# Altium footprint library Kanaloa_v2.0.0_Motor.PcbLib: 76 footprints (part 2 of 5)
Each footprint in its own frame and in the unit in brackets; x right, y up, seen from the top. Pads: shape width x height; smd on the part's side, far side on the other; paste and mask are expansions set on the pad; w line width, h text height; cw(c..) or ccw(c..) is an arc to the next point about the centre after c.
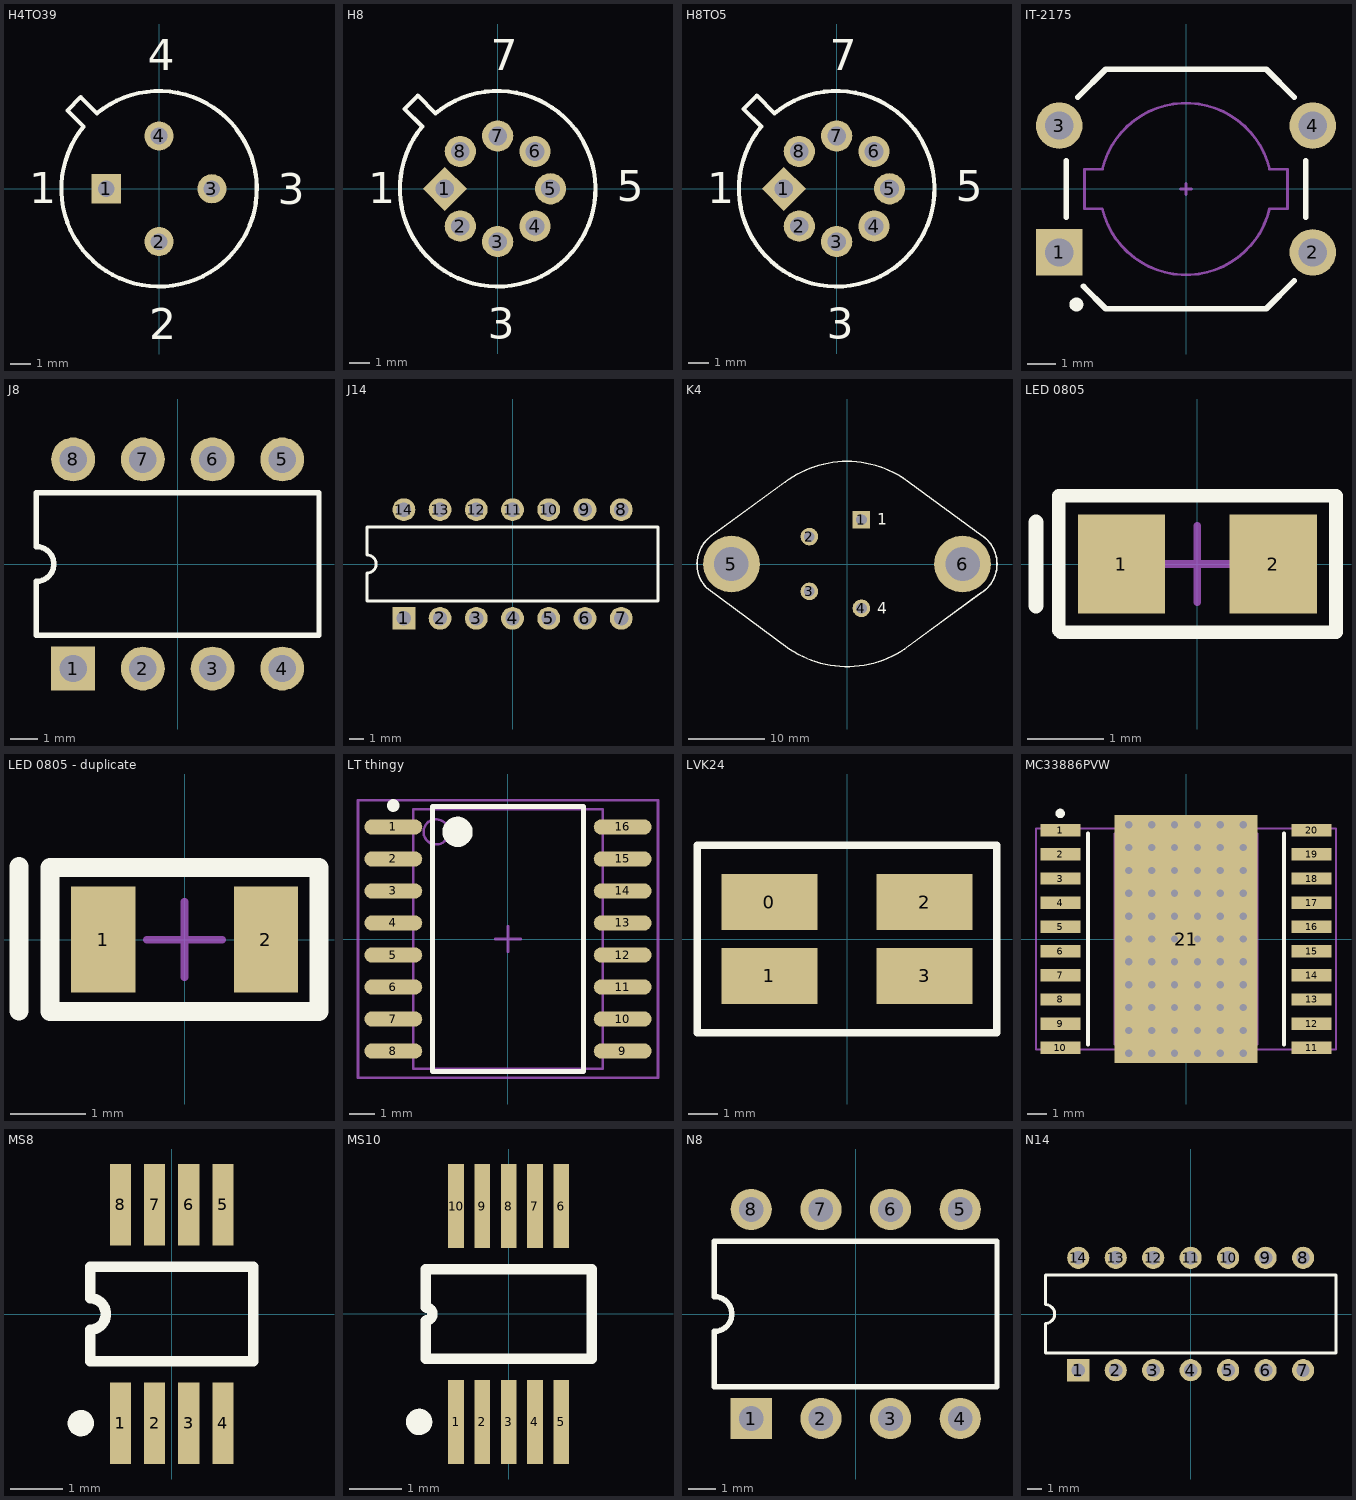
[diagram p1: the footprints below, top view; thin cyan lines are the x and y axes]

## H4TO39 [mm] "Can; 4 Leads; Pin Circle Dia. 5.08 mm; Lead Dia. 0.48 mm (max)"
height 4.96
pads (4):
  rect 1.4x1.4 hole 0.8: 1(-2.54,0)
  round 1.4 hole 0.8: 2(0,-2.54) 3(2.54,0) 4(0,2.54)
Top Overlay:
  lines w0.2: -4.404,3.768 -3.768,4.404 -2.99,3.626 cw(c0,0) -3.626,2.99 -4.404,3.768
  text "1" at -6.238,-0.697 h1.5
  text "2" at -0.469,-7.221 h1.5
  text "3" at 5.694,-0.751 h1.5
  text "4" at -0.541,5.701 h1.5

## H8 [mm] "Can; 8 Leads; Pin Circle Dia. 5.08 mm; Lead Dia. 0.53 mm (max)"
height 4.7
pads (8):
  rect 1.5x1.5 hole 0.9 rot 45: 1(-2.54,0)
  round 1.5 hole 0.9: 2(-1.796,-1.796) 3(0,-2.54) 4(1.796,-1.796) 5(2.54,0) 6(1.796,1.796) 7(0,2.54) 8(-1.796,1.796)
Top Overlay:
  lines w0.2: -4.475,3.838 -3.838,4.475 -2.99,3.626 cw(c0,0) -3.626,2.99 -4.475,3.838
  text "1" at -6.22,-0.696 h1.5
  text "3" at -0.469,-7.22 h1.5
  text "5" at 5.712,-0.589 h1.5
  text "7" at -0.332,5.7 h1.5

## H8TO5 [mm] "Can; 8 Leads; Pin Circle Dia. 5.08 mm; Lead Dia. 0.53 mm (max)"
height 4.7
pads (8):
  rect 1.5x1.5 hole 0.9 rot 45: 1(-2.54,0)
  round 1.5 hole 0.9: 2(-1.796,-1.796) 3(0,-2.54) 4(1.796,-1.796) 5(2.54,0) 6(1.796,1.796) 7(0,2.54) 8(-1.796,1.796)
Top Overlay:
  lines w0.2: -4.475,3.838 -3.626,2.99 ccw(c0,0) -2.99,3.626 -3.838,4.475 -4.475,3.838
  text "7" at -0.332,5.7 h1.5
  text "5" at 5.712,-0.589 h1.5
  text "3" at -0.469,-7.22 h1.5
  text "1" at -6.22,-0.696 h1.5

## IT-2175 [mm] "Switch, Push Button, Thru-Hole; 4 Leads; Body 8.5 x 8.5 mm (LxW typ); Row Spacing 9.0 mm; Pitch 4.5 mm"
height 7.1
pads (4):
  rect 1.65x1.65 hole 1: 1(-4.5,-2.25)
  round 1.65 hole 1: 2(4.5,-2.25) 3(-4.5,2.25) 4(4.5,2.25)
Top Overlay:
  circle w0.25: c-3.891,-4.1 r0.125
  lines w0.2: -4.25,-1 -4.25,1 ; -3.837,3.263 -2.85,4.25 2.85,4.25 3.837,3.263 ; -3.638,-3.458 -2.85,-4.25 2.85,-4.25 3.837,-3.263 ; 4.25,-1 4.25,1
Mechanical 1:
  lines w0.1: -2.97,0.7 -3.6,0.7 -3.6,-0.7 -2.97,-0.7 ccw(c-0.001,0) 2.967,-0.7 ; -2.969,0.7 cw(c0,0) 2.969,0.7 ; -0.2,0 0.2,0 ; 0,-0.2 0,0.2 ; 2.97,-0.7 3.6,-0.7 3.6,0.7 2.97,0.7

## J8 [mm] "DIP, Ceramic; 8 Leads; Row Spacing 7.62 mm; Pitch 2.54 mm"
height 5.08
pads (8):
  rect 1.6x1.6 hole 1: 1(-3.81,-3.81)
  round 1.6 hole 1: 2(-1.27,-3.81) 3(1.27,-3.81) 4(3.81,-3.81) 5(3.81,3.81) 6(1.27,3.81) 7(-1.27,3.81) 8(-3.81,3.81)
Top Overlay:
  lines w0.2: -5.15,-2.6 5.15,-2.6 5.15,2.6 -5.15,2.6 -5.15,0.635 cw(c-5.15,0) -5.15,-0.635 -5.15,-2.6

## J14 [mm] "DIP, Ceramic; 14 Leads; Row Spacing 7.62 mm; Pitch 2.54 mm"
height 5.08
pads (14):
  rect 1.6x1.6 hole 1: 1(-7.62,-3.81)
  round 1.6 hole 1: 2(-5.08,-3.81) 3(-2.54,-3.81) 4(0,-3.81) 5(2.54,-3.81) 6(5.08,-3.81) 7(7.62,-3.81) 8(7.62,3.81) 9(5.08,3.81) 10(2.54,3.81) 11(0,3.81) 12(-2.54,3.81) 13(-5.08,3.81) 14(-7.62,3.81)
Top Overlay:
  lines w0.2: -10.2,-2.6 10.2,-2.6 10.2,2.6 -10.2,2.6 -10.2,0.635 cw(c-10.2,0) -10.2,-0.635 -10.2,-2.6

## K4 [mm] "Oval Flange Mount; 4 Leads; Pin Circle Dia. 11.94 mm; Lead Dia. 1.09 mm (max)"
height 8.89
pads (6):
  rect 2.3x2.3 hole 1.4: 1(1.88,5.779)
  round 2.3 hole 1.4: 2(-4.915,3.571) 3(-4.915,-3.571) 4(1.88,-5.779)
  round 7.4 hole 4.5: 5(-15.075,0) 6(15.075,0)
Top Overlay:
  lines w0.2: 17.324,-3.9 7.511,-11.097 cw(c0,0) -7.481,-11.117 -18.322,-3.115 cw(c-15.075,0) -17.858,3.536 -8.078,10.691 cw(c0,0) 8.105,10.671 17.631,3.704 cw(c15.075,0) 17.325,-3.897
  text "4" at 3.93,-6.51 h1.5
  text "1" at 3.93,5.1 h1.5

## LED 0805 [mm]
height 0.8
pads (2):
  rect 1.15x1.3 smd: 1(-1,0) 2(1,0)
Top Overlay:
  lines w0.178: -1.825,-0.875 -1.825,0.9 1.825,0.9 1.825,-0.9 -1.8,-0.9 -1.825,-0.875
  lines w0.2: -2.125,-0.55 -2.125,0.55
Mechanical 15:
  lines w0.1: -0.5,0 0.5,0 ; 0,-0.5 0,0.5 ; -1.825,-0.9 -1.825,0.9 1.825,0.9 1.825,-0.9 -1.825,-0.9
3D body: height 0.8, standoff 0, extent -0.7,-0.575 0.675,0.575
3D body: height 0.3, standoff 0, extent -1,-0.625 1,0.625

## LED 0805 - duplicate [mm]
pads (2):
  rect 0.85x1.4 smd: 1(-1.075,0) 2(1.075,0)
Top Overlay:
  lines w0.254: -2.184,-0.94 -2.184,0.965 ; -1.775,-0.95 -1.775,0.95 1.775,0.95 1.775,-0.95 -1.775,-0.95
Mechanical 15:
  lines w0.1: -0.5,0 0.5,0 ; 0,-0.5 0,0.5 ; -1.775,-0.95 -1.775,0.95 1.775,0.95 1.775,-0.95 -1.775,-0.95
3D body: height 0.85, standoff 0, extent 0.813,-0.65 1.188,0.65
3D body: height 0.85, standoff 0, extent -1.1,-0.635 1.1,0.635
3D body: height 0.85, standoff 0, extent -1.188,-0.65 -0.813,0.65
3D body: height 0.87, standoff 0, extent -0.508,-0.254 0.508,0.254

## LT thingy [mm] "16-Pin Plastic Small Outline Integrated Circuit 1.27 mm Pitch, IPC Medium Density"
height 2.65
pads (16):
  oval 2.3x0.6 smd: 1(-4.55,4.445) 2(-4.55,3.175) 3(-4.55,1.905) 4(-4.55,0.635) 5(-4.55,-0.635) 6(-4.55,-1.905) 7(-4.55,-3.175) 8(-4.55,-4.445) 9(4.55,-4.445) 10(4.55,-3.175) 11(4.55,-1.905) 12(4.55,-0.635) 13(4.55,0.635) 14(4.55,1.905) 15(4.55,3.175) 16(4.55,4.445)
Top Overlay:
  circle w0.6: c-2,4.25 r0.3
  circle w0.25: c-4.55,5.295 r0.125
  lines w0.2: -3,-5.25 3,-5.25 3,5.25 -3,5.25 -3,-5.25
Mechanical 13:
  circle w0.1: c-2.85,4.25 r0.5
  lines w0.1: -3.75,-5.15 3.75,-5.15 3.75,5.15 -3.75,5.15 -3.75,-5.15
Mechanical 15:
  lines w0.1: -0.5,0 0.5,0 ; 0,-0.5 0,0.5 ; -5.95,-5.5 5.95,-5.5 5.95,5.5 -5.95,5.5 -5.95,-5.5
3D body: height 3.5, standoff 0, extent -5.125,-5.1 5.175,5.1

## LVK24 [mm] "Current Sense Resistor Ohmite"
pads (4):
  rect 3.25x1.9 smd: 0(-2.625,1.25) 1(-2.625,-1.25) 2(2.625,1.25) 3(2.625,-1.25)
Top Overlay:
  lines w0.254: -5.08,-3.175 -5.08,3.175 5.08,3.175 5.08,-3.175 -5.08,-3.175
3D body: height 0.6, standoff 0, extent -3.174,-1.676 3.226,1.524

## MC33886PVW [mm] "Monolithic H-Bridge (Freescale)"
height 3.4
pads (21):
  rect 2.1x0.65 smd: 1(-6.6,5.715) 2(-6.6,4.445) 3(-6.6,3.175) 4(-6.6,1.905) 5(-6.6,0.635) 6(-6.6,-0.635) 7(-6.6,-1.905) 8(-6.6,-3.175) 9(-6.6,-4.445) 10(-6.6,-5.715) 11(6.6,-5.715) 12(6.6,-4.445) 13(6.6,-3.175) 14(6.6,-1.905) 15(6.6,-0.635) 16(6.6,0.635) 17(6.6,1.905) 18(6.6,3.175) 19(6.6,4.445) 20(6.6,5.715)
  rect 7.5x13 smd: 21(0,0)
via 3,-6 diameter 0.762 hole 0.381
via 1.8,-6 diameter 0.762 hole 0.381
via 0.6,-6 diameter 0.762 hole 0.381
via -0.6,-6 diameter 0.762 hole 0.381
via -1.8,-6 diameter 0.762 hole 0.381
via -3,-6 diameter 0.762 hole 0.381
via 3,-4.8 diameter 0.762 hole 0.381
via 1.8,-4.8 diameter 0.762 hole 0.381
via 0.6,-4.8 diameter 0.762 hole 0.381
via -0.6,-4.8 diameter 0.762 hole 0.381
via -1.8,-4.8 diameter 0.762 hole 0.381
via -3,-4.8 diameter 0.762 hole 0.381
via 3,-3.6 diameter 0.762 hole 0.381
via 1.8,-3.6 diameter 0.762 hole 0.381
via 0.6,-3.6 diameter 0.762 hole 0.381
via -0.6,-3.6 diameter 0.762 hole 0.381
via -1.8,-3.6 diameter 0.762 hole 0.381
via -3,-3.6 diameter 0.762 hole 0.381
via 3,-2.4 diameter 0.762 hole 0.381
via 1.8,-2.4 diameter 0.762 hole 0.381
via 0.6,-2.4 diameter 0.762 hole 0.381
via -0.6,-2.4 diameter 0.762 hole 0.381
via -1.8,-2.4 diameter 0.762 hole 0.381
via -3,-2.4 diameter 0.762 hole 0.381
via 3,-1.2 diameter 0.762 hole 0.381
via 1.8,-1.2 diameter 0.762 hole 0.381
via 0.6,-1.2 diameter 0.762 hole 0.381
via -0.6,-1.2 diameter 0.762 hole 0.381
via -1.8,-1.2 diameter 0.762 hole 0.381
via -3,-1.2 diameter 0.762 hole 0.381
via 3,0 diameter 0.762 hole 0.381
via 1.8,0 diameter 0.762 hole 0.381
via 0.6,0 diameter 0.762 hole 0.381
via -0.6,0 diameter 0.762 hole 0.381
via -1.8,0 diameter 0.762 hole 0.381
via -3,0 diameter 0.762 hole 0.381
via 3,1.2 diameter 0.762 hole 0.381
via 1.8,1.2 diameter 0.762 hole 0.381
via 0.6,1.2 diameter 0.762 hole 0.381
via -0.6,1.2 diameter 0.762 hole 0.381
via -1.8,1.2 diameter 0.762 hole 0.381
via -3,1.2 diameter 0.762 hole 0.381
via 3,2.4 diameter 0.762 hole 0.381
via 1.8,2.4 diameter 0.762 hole 0.381
via 0.6,2.4 diameter 0.762 hole 0.381
via -0.6,2.4 diameter 0.762 hole 0.381
via -1.8,2.4 diameter 0.762 hole 0.381
via -3,2.4 diameter 0.762 hole 0.381
via 3,3.6 diameter 0.762 hole 0.381
via 1.8,3.6 diameter 0.762 hole 0.381
via 0.6,3.6 diameter 0.762 hole 0.381
via -0.6,3.6 diameter 0.762 hole 0.381
via -1.8,3.6 diameter 0.762 hole 0.381
via -3,3.6 diameter 0.762 hole 0.381
via 3,4.8 diameter 0.762 hole 0.381
via 1.8,4.8 diameter 0.762 hole 0.381
via 0.6,4.8 diameter 0.762 hole 0.381
via -0.6,4.8 diameter 0.762 hole 0.381
via -1.8,4.8 diameter 0.762 hole 0.381
via -3,4.8 diameter 0.762 hole 0.381
via 3,6 diameter 0.762 hole 0.381
via 1.8,6 diameter 0.762 hole 0.381
via 0.6,6 diameter 0.762 hole 0.381
via -0.6,6 diameter 0.762 hole 0.381
via -1.8,6 diameter 0.762 hole 0.381
via -3,6 diameter 0.762 hole 0.381
Top Overlay:
  circle w0.25: c-6.6,6.59 r0.125
  lines w0.2: -5.15,-5.55 -5.15,5.55 ; 5.15,-5.55 5.15,5.55
Mechanical 13:
  circle w0.1: c-2.8,4.6 r0.5
  lines w0.1: -3.75,-5.55 3.75,-5.55 3.75,5.55 -3.75,5.55 -3.75,-5.55
Mechanical 15:
  lines w0.1: -0.5,0 0.5,0 ; 0,-0.5 0,0.5 ; -7.875,-5.8 7.875,-5.8 7.875,5.8 -7.875,5.8 -7.875,-5.8
3D body: height 3.17, standoff -0.03, extent -7.125,-8 7.125,8

## MS8 [mm] "Shrink Small Outline; 8 Leads; Body Width 3 mm; Pitch 0.65 mm"
height 1.17
pads (8):
  rect 0.4x1.55 smd: 1(-0.975,-2.075) 2(-0.325,-2.075) 3(0.325,-2.075) 4(0.975,-2.075) 5(0.975,2.075) 6(0.325,2.075) 7(-0.325,2.075) 8(-0.975,2.075)
Top Overlay:
  circle w0.25: c-1.725,-2.075 r0.125
  lines w0.2: -1.55,-0.9 -1.55,-0.3 ccw(c-1.55,0) -1.55,0.3 -1.55,0.9 1.55,0.9 1.55,-0.9 -1.55,-0.9

## MS10 [mm] "Shrink Small Outline; 10 Leads; Body Width 3 mm; Pitch 0.5 mm"
height 1.1
pads (10):
  rect 0.3x1.6 smd: 1(-1,-2.05) 2(-0.5,-2.05) 3(0,-2.05) 4(0.5,-2.05) 5(1,-2.05) 6(1,2.05) 7(0.5,2.05) 8(0,2.05) 9(-0.5,2.05) 10(-1,2.05)
Top Overlay:
  circle w0.25: c-1.7,-2.05 r0.125
  lines w0.2: -1.575,-0.85 -1.575,-0.125 ccw(c-1.575,0) -1.575,0.125 -1.575,0.85 1.575,0.85 1.575,-0.85 -1.575,-0.85

## N8 [mm] "DIP, Plastic; 8 Leads; Row Spacing 7.62 mm; Pitch 2.54 mm"
height 4.45
pads (8):
  rect 1.5x1.5 hole 0.9: 1(-3.81,-3.81)
  round 1.5 hole 0.9: 2(-1.27,-3.81) 3(1.27,-3.81) 4(3.81,-3.81) 5(3.81,3.81) 6(1.27,3.81) 7(-1.27,3.81) 8(-3.81,3.81)
Top Overlay:
  lines w0.2: -5.15,-2.65 5.15,-2.65 5.15,2.65 -5.15,2.65 -5.15,0.635 cw(c-5.15,0) -5.15,-0.635 -5.15,-2.65

## N14 [mm] "DIP, Plastic; 14 Leads; Row Spacing 7.62 mm; Pitch 2.54 mm"
height 4.45
pads (14):
  rect 1.5x1.5 hole 0.9: 1(-7.62,-3.81)
  round 1.5 hole 0.9: 2(-5.08,-3.81) 3(-2.54,-3.81) 4(0,-3.81) 5(2.54,-3.81) 6(5.08,-3.81) 7(7.62,-3.81) 8(7.62,3.81) 9(5.08,3.81) 10(2.54,3.81) 11(0,3.81) 12(-2.54,3.81) 13(-5.08,3.81) 14(-7.62,3.81)
Top Overlay:
  lines w0.2: -9.85,-2.65 9.85,-2.65 9.85,2.65 -9.85,2.65 -9.85,0.635 cw(c-9.85,0) -9.85,-0.635 -9.85,-2.65